# EAGLE library part OPA2320AIDGKR (library ruark2)
CMOS OPAMP OP-AMP 2 Circuit Rail-to-Rail 20MHz 8-VSSOP
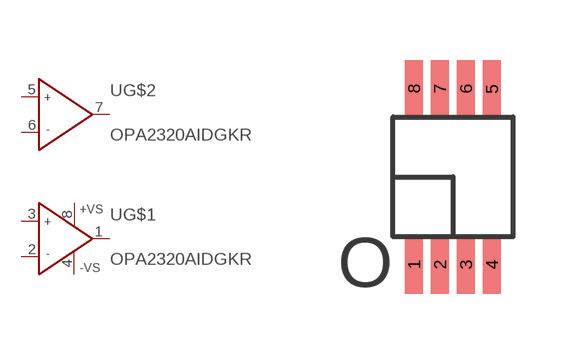
[diagram p117: symbol with the pads of 8-VSSOP; footprint 8-VSSOP]

Designator prefix U; gates G$1=OP+- G$2=OP

## OPA2320AIDGKR (PARTNO: 296-28067-1-ND)  [8-VSSOP]
1  G$1:OUT  out
2  G$1:IN-  in
3  G$1:IN+  in
4  G$1:-VS  in
5  G$2:IN+  in
6  G$2:IN-  in
7  G$2:OUT  out
8  G$1:+VS  in

## Footprint 8-VSSOP (pad centres in mm)
smd 0.45 x 1.45: 1 -0.975,-2.2; 2 -0.325,-2.2; 3 0.325,-2.2; 4 0.975,-2.2; 5 0.975,2.2; 6 0.325,2.2; 7 -0.325,2.2; 8 -0.975,2.2